# Altium schematic symbol library BlackChat Library.SchLib: 14 symbols
Pins are listed as number, name and electrical type; pins without a type are passive.

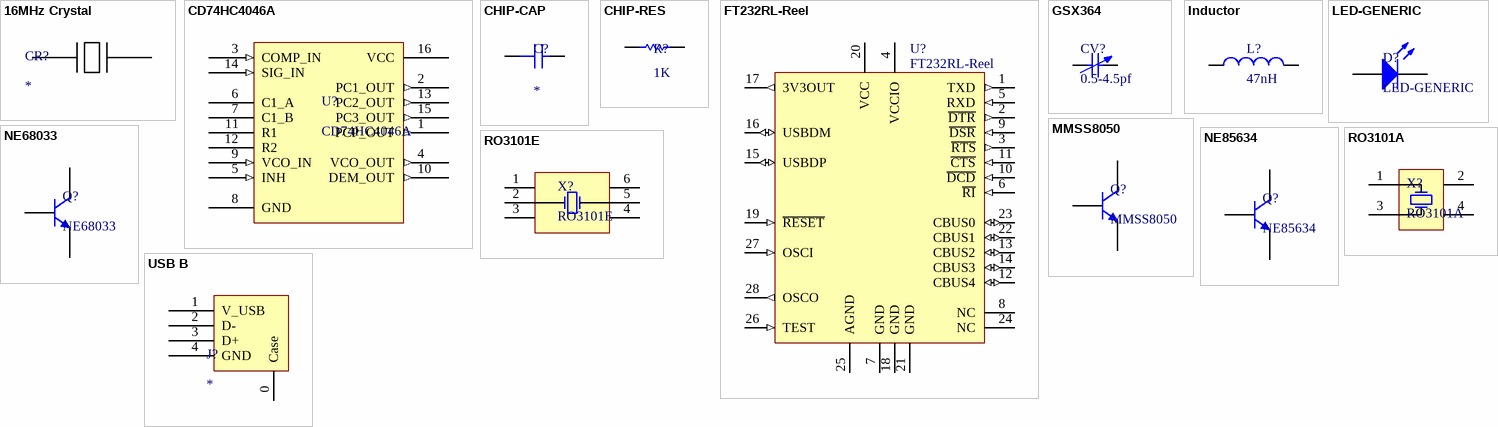
[diagram p0: symbols 16MHz Crystal to USB B]

## 16MHz Crystal
designator CR?
16MHz Crystal; Supplier 1: Digi-Key; Supplier Part Number 1: X176-ND
footprint Crystal (ECS HC49US Crystal)
pins: 1, 2

## CD74HC4046A
designator U?
TI Phase Locked Loop with VCO; ComponentLink1URL: http://www.ti.com/lit/ds/symlink/cd74hct4046a.pdf; ComponentLink1Description: Datasheet
footprint TSSOP-16 [TSOP65P640X120-16N] (TSSOP, 16-Leads, Body 5.00x4.40mm, Pitch 0.65mm, IPC Medium Density)
pins: 1 PCP_OUT (out) "Phase Comparator Pulse Output", 2 PC1_OUT (out) "Phase Comparator 1 Output", 3 COMP_IN (in) "Comparator Input", 4 VCO_OUT (out) "VCO Output", 5 INH (in) "Inhibit Input", 6 C1_A "Capacitor C1 Connection A", 7 C1_B "Capacitor C1 Connection B", 8 GND (power) "Capacitor C1 Connection B", 9 VCO_IN (in) "VCO Input", 10 DEM_OUT (out) "Demodulator Output", 11 R1 "Resistor R1 Connection", 12 R2 "Resistor R2 Connection", 13 PC2_OUT (out) "Phase Comparator 2 Output", 14 SIG_IN (in) "Signal Input", 15 PC3_OUT (out) "Phase Comparator 3 Output", 16 VCC (power) "Positive Supply Voltage"

## CHIP-CAP
designator C?
SMD Chip Capacitor; Value: *
footprint CAP-0805 (Chip Capacitor, Body 2.0x1.3mm, IPC High Density)
pins: 1, 2

## CHIP-RES
designator R?, comment 1K
SMD Chip Resistor; Value: 1K
footprint RES-0805 (Chip Resistor, Body 2.0x1.3mm, IPC High Density)
pins: 1, 2

## FT232RL-Reel
designator U?
USB UART Asynchronous Serial Data Transfer Chip, SSOP-28, Tape and Reel; Published: 19-Aug-2010; DatasheetVersion: ver 2.07, Jul-2010; PackageVersion: 2010; PackageReference: SSOP-28; Publisher: Altium Limited; PackageDescription: 28-Pin Small Outline Package 0.65 mm Pitch; ComponentLink1Description: Manufacturer Link; ComponentLink1URL: http://www.ftdichip.com/Products/ICs/FT232R.htm; ComponentLink2Description: Datasheet; ComponentLink2URL: http://www.ftdichip.com/Support/Documents/DataSheets/ICs/DS_FT232R.pdf
footprint SSOP-28_N (SOP, 28-Leads, Body 10.2x5.3mm, Pitch 0.65mm, IPC Medium Density)
footprint SSOP-28_L (SOP, 28-Leads, Body 10.2x5.3mm, Pitch 0.65mm, IPC High Density)
footprint SSOP-28_M (SOP, 28-Leads, Body 10.2x5.3mm, Pitch 0.65mm, IPC Low Density)
pins: 1 TXD (out), 2 ~{DTR} (out), 3 ~{RTS} (out), 4 VCCIO (power), 5 RXD (in), 6 ~{RI} (in), 7 GND (power), 8 NC, 9 ~{DSR} (in), 10 ~{DCD} (in), 11 ~{CTS} (in), 12 CBUS4 (io), 13 CBUS2 (io), 14 CBUS3 (io), 15 USBDP (io), 16 USBDM (io), 17 3V3OUT (out), 18 GND (power), 19 ~{RESET} (in), 20 VCC (power), 21 GND (power), 22 CBUS1 (io), 23 CBUS0 (io), 24 NC, 25 AGND (power), 26 TEST (in), 27 OSCI (in), 28 OSCO (out)

## GSX364
designator CV?, comment 0.5-4.5pf
0.5pF to 4.5pF variable capacitor.; Value: 0.5-4.5pf
footprint CAP-GSX364 (Trimmer / Variable Capacitors .5-4.5 PF 100V)
pins: 1, 2

## Inductor
designator L?, comment 47nH
Generic Inductor; Value: 47nH
footprint C1210 (Chip Capacitor, Body 3.2x2.5mm, IPC High Density)
footprint AXIAL-0.4 (Axial Device, Thru-Hole; 2 Leads; 0.4 in Pin Spacing)
footprint AXIAL-0.3 (Axial Device, Thru-Hole; 2 Leads; 0.3 in Pin Spacing)
pins: 1, 2

## LED-GENERIC
designator D?
Light Emitting Diode
footprint LED-5MM (Standard 5mm LED)
footprint LED-0805
pins: 1 A, 2 K

## MMSS8050
designator Q?
NPN SILICON TRANSISTOR
footprint SOT95P275X120-3N (SOT23, 3-Leads, Body 2.90x2.75mm, Pitch 0.95mm, IPC Medium Density)
pins: 1 E, 2 B, 3 C

## NE68033
designator Q?
NPN SILICON HIGH FREQUENCY TRANSISTOR
footprint SOT95P275X120-3N (SOT23, 3-Leads, Body 2.90x2.75mm, Pitch 0.95mm, IPC Medium Density)
pins: 1 E, 2 B, 3 C

## NE85634
designator Q?
NPN RF SILICON TRANSISTOR
footprint NE85634_SOT89 (SOT89, 3-Leads, Body 4.50x2.50mm, Pitch 1.50mm, Lead Span 4.0mm, IPC Medium Density)
pins: 1 B, 2 C, 3 E

## RO3101A
designator X?
433.92 MHz  SAW  Resonator; ComponentLink1Description: Datasheet; ComponentLink1URL: http://www.mouser.com/catalog/specsheets/ro3101a1.pdf
footprint RO3101A (433.92 MHz  SAW  Resonator)
pins: 1 Terminal 1, 2 CASE, 3 Terminal 2 "Positive Supply Voltage 5V", 4 CASE

## RO3101E
designator X?
433.92 MHz  SAW  Resonator; ComponentLink1Description: Datasheet; ComponentLink1URL: http://wireless.murata.com/RFM/data/ro3101e.pdf?ref=rfm.com
footprint RO3101E (433.92 MHz  SAW  Resonator)
pins: 1 NC "Positive Supply Voltage 5V", 2 OSC1, 3 NC "Positive Supply Voltage 5V", 4 NC "Positive Supply Voltage 5V", 5 OSC2, 6 NC "Positive Supply Voltage 5V"

## USB B
designator J?
On Shore Technology USB-B1HSB6; Supplier 1: Digi-Key; Supplier Part Number 1: ED2983-ND
footprint USB-B (On Shore Technology USB-B1HSB6)
pins: 0 Case, 1 V_USB, 2 D-, 3 D+, 4 GND